# EAGLE library part RP42?* (library relay2)
Power PCB Relay RP II/2 Schrack 2 pole 8 A Source: http://www.schrack.com/.. 5844.pdf
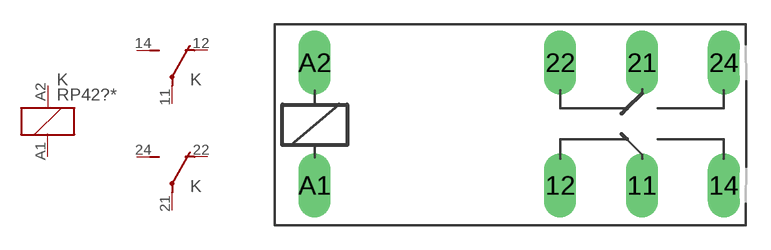
[diagram p14: symbol with the pads of RP420; footprint RP420]

Designator prefix K; gates 1=K 2=U 3=U

## RP420005 (MPN: RP420005; OC_FARNELL: unknown; OC_NEWARK: 48M7798), RP420006 (MPN: RP420006; OC_FARNELL: unknown; OC_NEWARK: 48M7799), RP420012 (MF: TYCO ELECTRONICS; MPN: RP420012; OC_FARNELL: 3103330; OC_NEWARK: 90B4410), RP420024 (MF: TYCO ELECTRONICS; MPN: RP420024; OC_FARNELL: 1703720; OC_NEWARK: 51B969), RP420048 (MF: TYCO ELECTRONICS; MPN: RP420048; OC_FARNELL: unknown; OC_NEWARK: 92C3381), RP420060 (MPN: RP420060; OC_FARNELL: unknown; OC_NEWARK: 48M7803), RP420110 (MF: TYCO ELECTRONICS; MPN: RP420110; OC_FARNELL: unknown; OC_NEWARK: 08H3601)  [RP420]
11  2:P  pas
12  2:O  pas
14  2:S  pas
21  3:P  pas
22  3:O  pas
24  3:S  pas
A1  1:2  pas
A2  1:1  pas

## RP421005 (MF: TYCO ELECTRONICS; MPN: 6-1393234-4; OC_FARNELL: unknown; OC_NEWARK: 16H0760), RP421006 (MF: TYCO ELECTRONICS; MPN: 6-1393234-5; OC_FARNELL: unknown; OC_NEWARK: 16H0761), RP421012 (MF: TYCO ELECTRONICS; MPN: RP421012; OC_FARNELL: unknown; OC_NEWARK: 90B5481), RP421024 (MF: TYCO ELECTRONICS; MPN: RP421024; OC_FARNELL: 1608388; OC_NEWARK: 01C0518), RP421048 (MF: TYCO ELECTRONICS; MPN: RP421048; OC_FARNELL: unknown; OC_NEWARK: 08H3604), RP421060 (MF: TYCO ELECTRONICS; MPN: RP421060; OC_FARNELL: unknown; OC_NEWARK: 84H0645), RP421110 (MF: TYCO ELECTRONICS; MPN: RP421110; OC_FARNELL: unknown; OC_NEWARK: 39C2625)  [RP420]
Pads as for RP420

## Footprint RP420 (pad centres in mm)
RELAY 2 x switch, Schrack
drill 1.321 long: 11 16.51,-3.81; 12 11.43,-3.81; 14 21.59,-3.81; 21 16.51,3.81; 22 11.43,3.81; 24 21.59,3.81; A1 -3.81,-3.81; A2 -3.81,3.81